# EAGLE library part MEMORY:EPCS1-4(ALTERACONFIG) (library QuantumOptics)
EPCS1 or EPCS4, Altera, FPGA serial configuration device.
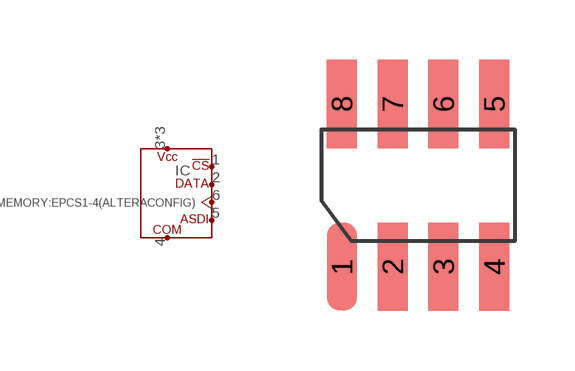
[diagram p41: symbol with the pads of SOIC-8; footprint SOIC-8]

Designator prefix IC

## MEMORY:EPCS1-4(ALTERACONFIG)  [SOIC-8]
1  NCS  in
2  DATA  out
3  VCC3  in
4  COM  in
5  ASDI  in
6  DCLK  in
7  VCC3  in
8  VCC3  in

## Footprint SOIC-8 (pad centres in mm)
SOIC-8 (AKA SO-8), pads on 0.050" grid.
smd 0.75 x 2.2: 1 -1.905,-2.032; 2 -0.635,-2.032; 3 0.635,-2.032; 4 1.905,-2.032; 5 1.905,2.032; 6 0.635,2.032; 7 -0.635,2.032; 8 -1.905,2.032